# EAGLE library part PIN_1X13 (library FaBo-PIN)
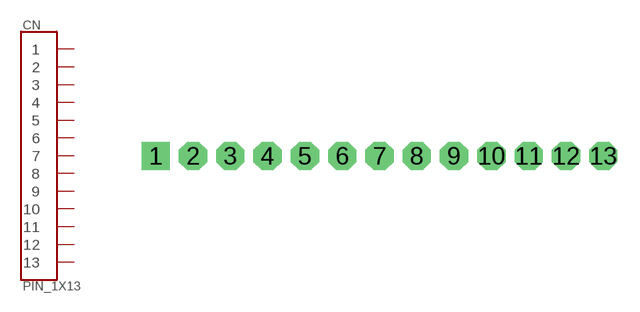
[diagram p17: symbol with the pads of PIN_1X13; footprint PIN_1X13]

Designator prefix CN

## PIN_1X13  [PIN_1X13]
1  1
2  2
3  3
4  4
5  5
6  6
7  7
8  8
9  9
10  10
11  11
12  12
13  13

## Footprint PIN_1X13 (pad centres in mm)
drill 1.1 pad 1.93 square: 1 -15.24,0
drill 1.1 pad 1.93 octagon: 2 -12.7,0; 3 -10.16,0; 4 -7.62,0; 5 -5.08,0; 6 -2.54,0; 7 0,0; 8 2.54,0; 9 5.08,0; 10 7.62,0; 11 10.16,0; 12 12.7,0; 13 15.24,0